# EAGLE library part WE-750370024 (library JLB6_power)
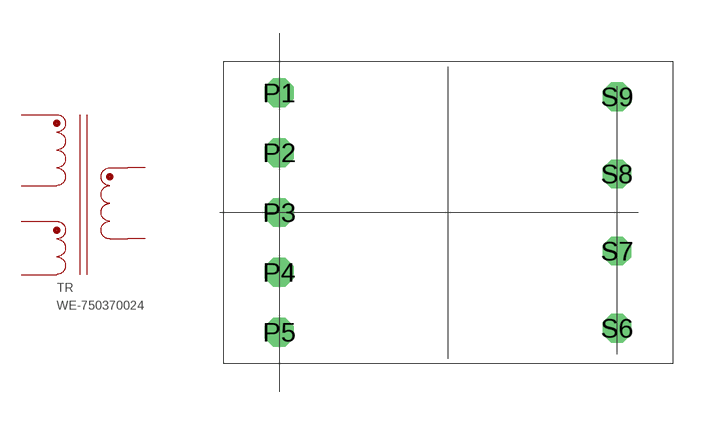
[diagram p16: symbol with the pads of WE-75037-0024; footprint WE-75037-0024]

Designator prefix TR

## WE-750370024  [WE-75037-0024]
P1  1  pas
P3  3  pas
P4  4  pas
P5  5  pas
S6  6  pas
S9  9  pas

## Footprint WE-75037-0024 (pad centres in mm)
drill 0.8 octagon: P1 0,10.871; P2 0,8.153; P3 0,5.436; P4 0,2.718; P5 0,0; S6 15.342,0.178; S7 15.342,3.683; S8 15.342,7.188; S9 15.342,10.693